# EAGLE library part KK156-07_S (library con-molex-kk)
HEADER
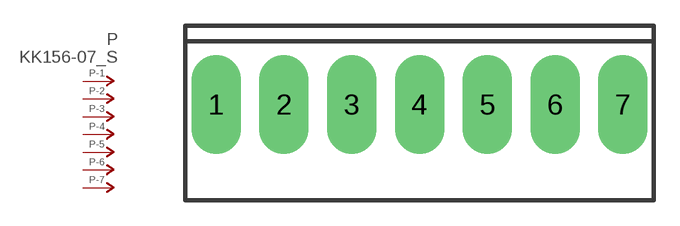
[diagram p163: symbol with the pads of KK156-07; footprint KK156-07]

Designator prefix P; gates -1=P-NV -2=P-N -3=P-N -4=P-N -5=P-N -6=P-N -7=P-N

## KK156-07_S  [KK156-07]
1  -1:P  pas
2  -2:P  pas
3  -3:P  pas
4  -4:P  pas
5  -5:P  pas
6  -6:P  pas
7  -7:P  pas

## Footprint KK156-07 (pad centres in mm)
HEADER - 0.156" SPOX 5273 Series
drill 1.93 long: 1 -11.887,0; 2 -7.925,0; 3 -3.962,0; 4 0,0; 5 3.962,0; 6 7.925,0; 7 11.887,0